# EAGLE library part ATTINY44A (library RGB LED project)
AVR 8-bit microcontroller
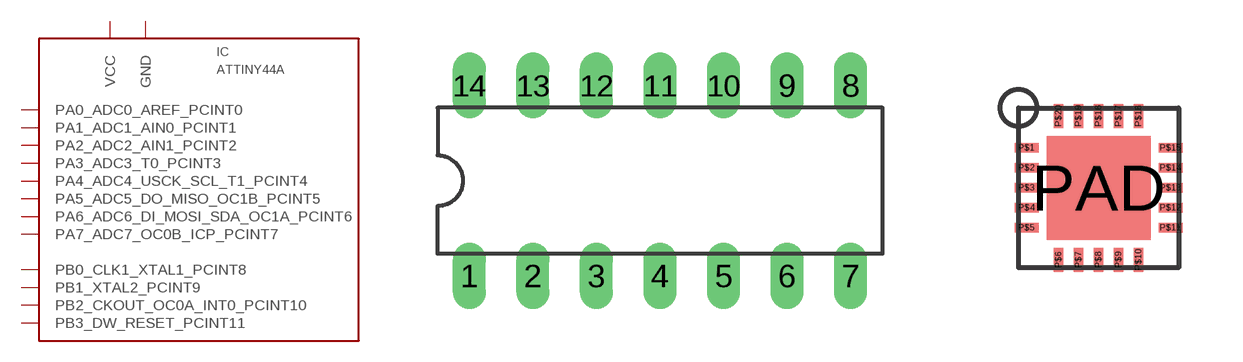
[diagram p2: symbol with the pads of PDIP-14; footprints PDIP-14, QFN-20]

Designator prefix IC

## ATTINY44APDIP-14  [PDIP-14]
1  VCC
2  PB0_CLK1_XTAL1_PCINT8
3  PB1_XTAL2_PCINT9
4  PB3_DW_RESET_PCINT11
5  PB2_CKOUT_OC0A_INT0_PCINT10
6  PA7_ADC7_OC0B_ICP_PCINT7
7  PA6_ADC6_DI_MOSI_SDA_OC1A_PCINT6
8  PA5_ADC5_DO_MISO_OC1B_PCINT5
9  PA4_ADC4_USCK_SCL_T1_PCINT4
10  PA3_ADC3_T0_PCINT3
11  PA2_ADC2_AIN1_PCINT2
12  PA1_ADC1_AIN0_PCINT1
13  PA0_ADC0_AREF_PCINT0
14  GND

## ATTINY44AQFN-20  [QFN-20]
P$1  PA4_ADC4_USCK_SCL_T1_PCINT4
P$2  PA3_ADC3_T0_PCINT3
P$3  PA2_ADC2_AIN1_PCINT2
P$4  PA1_ADC1_AIN0_PCINT1
P$5  PA0_ADC0_AREF_PCINT0
P$8  GND
P$9  VCC
P$11  PB0_CLK1_XTAL1_PCINT8
P$12  PB1_XTAL2_PCINT9
P$13  PB3_DW_RESET_PCINT11
P$14  PB2_CKOUT_OC0A_INT0_PCINT10
P$15  PA7_ADC7_OC0B_ICP_PCINT7
P$16  PA6_ADC6_DI_MOSI_SDA_OC1A_PCINT6
P$20  PA5_ADC5_DO_MISO_OC1B_PCINT5
PAD  GND

## Footprint PDIP-14 (pad centres in mm)
Dual In Line Package
drill 0.813 long: 1 -7.62,-3.81; 2 -5.08,-3.81; 3 -2.54,-3.81; 4 0,-3.81; 5 2.54,-3.81; 6 5.08,-3.81; 7 7.62,-3.81; 8 7.62,3.81; 9 5.08,3.81; 10 2.54,3.81; 11 0,3.81; 12 -2.54,3.81; 13 -5.08,3.81; 14 -7.62,3.81

## Footprint QFN-20 (pad centres in mm)
4x4 mm
smd 0.6 x 0.23: P$1 -1.8,1; P$2 -1.8,0.5; P$3 -1.8,0; P$4 -1.8,-0.5; P$5 -1.8,-1; P$11 1.8,-1; P$12 1.8,-0.5; P$13 1.8,0; P$14 1.8,0.5; P$15 1.8,1
smd 0.23 x 0.6: P$6 -1,-1.8; P$7 -0.5,-1.8; P$8 0,-1.8; P$9 0.5,-1.8; P$10 1,-1.8; P$16 1,1.8; P$17 0.5,1.8; P$18 0,1.8; P$19 -0.5,1.8; P$20 -1,1.8
smd 2.6 x 2.6: PAD 0,0